# Altium schematic symbol library Integrated Half-Bridge with driver (International rectifier).SchLib: 1 symbol
Pins are listed as number, name and electrical type; pins without a type are passive.

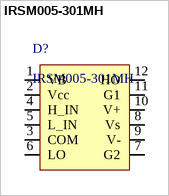
[diagram p0: symbol IRSM005-301MH]

## IRSM005-301MH
designator D?
Half-bridge with integrated gate driver in  7x8mm / PQFN package; Vds: 100V; Io (max per MOSFET): 30A; Pd (max per MOSFET): 13.5W; Vcc: -0.3 to 20V; Tj (max): +150 °C
footprint PQFN 7x8
pins: 1 VB, 2 Vcc, 3 COM, 4 H_IN, 5 L_IN, 6 LO, 7 G2, 8 Vs, 9 V-, 10 V+, 11 G1, 12 HO